# Altium footprint library OWMR.PcbLib: 59 footprints (part 4 of 4)
Each footprint in its own frame and in the unit in brackets; x right, y up, seen from the top. Pads: shape width x height; smd on the part's side, far side on the other; paste and mask are expansions set on the pad; w line width, h text height; cw(c..) or ccw(c..) is an arc to the next point about the centre after c.
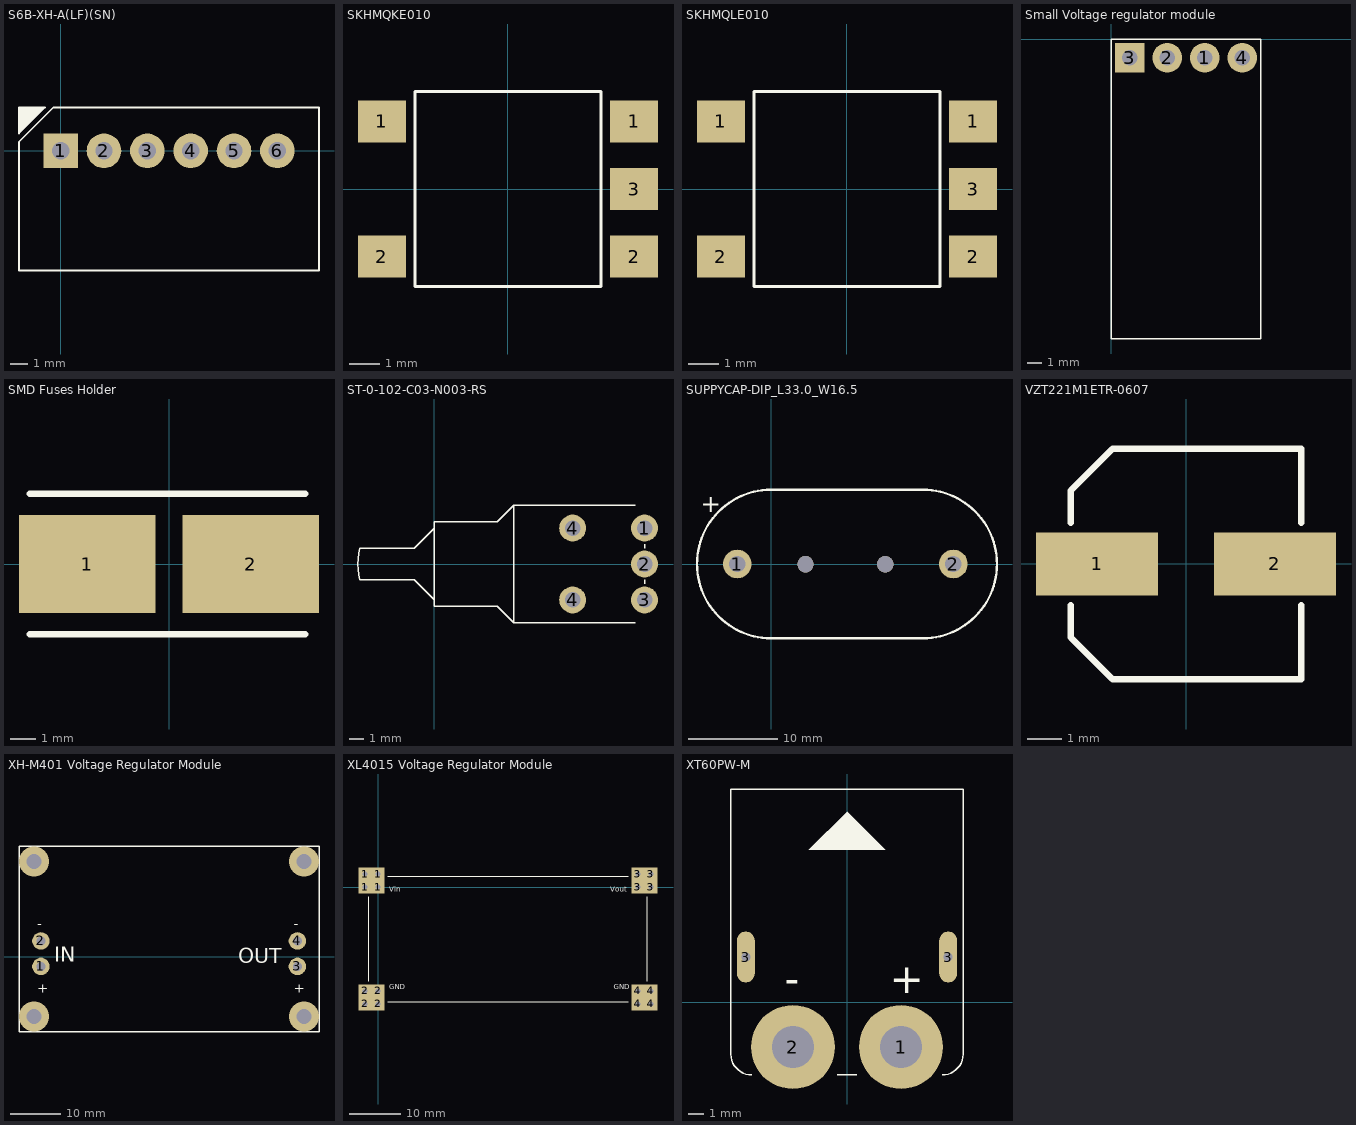
[diagram p3: the footprints below, top view; thin cyan lines are the x and y axes]

## S6B-XH-A(LF)(SN) [mil] "1x6P XH Header, Side Vesion"
height 240.16
pads (6):
  rect 80x80 hole 40: 1(0,0)
  round 80 hole 40: 2(100,0) 3(200,0) 4(300,0) 5(400,0) 6(500,0)
Top Overlay:
  region: -96,100 -36,100 -96,40
  lines w3.94: -96,-276 596,-276 596,100 -17.26,100 -96,21.26 -96,-276 ; -96,40 -96,100 -36,100 -96,40
3D body: height 358.27, standoff 0, extent -96,-276 596,100

## SKHMQKE010 [mm] "6.2mm 3.1mm Round Button 50mA Brick nogging 6.5mm SPST 12V SMD  Tactile Switches ROHS"
height 3.1
pads (5):
  rect 1.6x1.4 smd: 1(-4.2,2.25) 1(4.2,2.25) 2(-4.2,-2.25) 2(4.2,-2.25) 3(4.2,0)
Top Overlay:
  lines w0.1: -3.1,-3.25 3.1,-3.25 3.1,3.25 -3.1,3.25 -3.1,-3.25
3D body: height 3.1, standoff 0, extent -3.1,-3.25 3.1,3.25

## SKHMQLE010 [mm] "6.2mm 3.1mm Round Button 50mA Brick nogging 6.5mm SPST 12V SMD  Tactile Switches ROHS"
height 3.1
pads (5):
  rect 1.6x1.4 smd: 1(-4.2,2.25) 1(4.2,2.25) 2(-4.2,-2.25) 2(4.2,-2.25) 3(4.2,0)
Top Overlay:
  lines w0.1: -3.1,-3.25 -3.1,3.25 3.1,3.25 3.1,-3.25 -3.1,-3.25
3D body: height 3.1, standoff 0, extent -3.1,-3.25 3.1,3.25

## Small Voltage regulator module [mm] "3A DC-DC Non-isolated voltage regulator module"
pads (4):
  round 2 hole 1.02: 1(6.35,-1.27) 2(3.81,-1.27) 4(8.89,-1.27)
  rect 2x2 hole 1.02: 3(1.27,-1.27)
Top Overlay:
  lines w0.1: 0,-20.32 10.16,-20.32 10.16,0 0,0 0,-20.32
3D body: height 8.65, standoff 0, extent -0.347,-2.605 10.51,0.045

## SMD Fuses Holder [mil] "SMD 1808 Fuse Holder"
pads (2):
  rect 210x150 smd: 1(-125.5,0) 2(125.5,0)
Top Overlay:
  lines w10: -214.08,-108.27 209.15,-108.27 ; -214.08,108.27 209.15,108.27
3D body: height 150, standoff 0, extent -214.08,-108.27 209.15,108.27

## ST-0-102-C03-N003-RS [mm] "SW-SPST"
height 5.2
pads (5):
  round 1.9 hole 1.1: 1(14.85,2.54) 2(14.85,0) 3(14.85,-2.54) 4(9.77,-2.54) 4(9.77,2.54)
Top Overlay:
  lines w0.1: 0,-2.54 -1.417,-1.123 -5.282,-1.123 cw(c0,0) -5.282,1.123 -1.417,1.123 0,2.54 ; 14.2,-4.15 5.6,-4.15 ; 14.2,4.15 5.6,4.15 ; 14.85,-1.4 14.85,-1.1 ; 14.85,1.1 14.85,1.4 ; 5.6,-4.15 5.6,4.15 ; 5.6,-4.15 4.45,-3 0,-3 0,3 4.45,3 5.6,4.15

## SUPPYCAP-DIP_L33.0_W16.5 [mm] "478-11288-ND * 2"
pads (2):
  round 3.2 hole 1.83: 1(-3.802,0) 2(20.328,0)
via 12.708,-0.015 diameter 1.83 hole 1.83
via 3.818,-0.015 diameter 1.83 hole 1.83
Top Overlay:
  lines w0.254: 0,-8.3 cw(c0,0) 0,8.3 16.899,8.3 cw(c16.899,0) 16.899,-8.3 0,-8.3
  text "+" at -7.882,5.755 h2

## VZT221M1ETR-0607 [mm] "SMD 6.3x7.7mm 220uF 25V Capacitor"
height 8
pads (2):
  rect 3.6x1.85 smd: 1(-2.625,0) 2(2.625,0)
Top Overlay:
  lines w0.2: -3.4,-1.225 -3.4,-2.163 -2.163,-3.4 3.4,-3.4 3.4,-1.225 ; -3.4,1.225 -3.4,2.163 -2.163,3.4 3.4,3.4 3.4,1.225
3D body "CAPAE7266X80M.step": height 8, standoff 0, extent -3.6,-3.4 3.6,3.4

## XH-M401 Voltage Regulator Module [mm] "8A DC-DC Non-isolated voltage regulator module"
pads (4):
  round 3.5 hole 1.8: 1(-75.2,-1.9) 2(-75.2,3.18) 3(-23.9,-1.9) 4(-23.9,3.18)
via -76.58,19.076 diameter 6 hole 3
via -76.58,-11.924 diameter 6 hole 3
via -22.58,-11.924 diameter 6 hole 3
via -22.58,19.076 diameter 6 hole 3
Top Overlay:
  lines w0.254: -79.58,-14.924 -79.58,22.076 -19.58,22.076 -19.58,-14.924 -79.58,-14.924
  text "OUT" at -35.75,-1.25 h3
  text "IN" at -72.5,-1 h3
  text "-" at -75.95,5.68 h2
  text "+" at -75.95,-7.153 h2
  text "-" at -24.65,5.68 h2
  text "+" at -24.65,-7.153 h2

## XL4015 Voltage Regulator Module [mm] "5A DC-DC Non-isolated voltage regulator module"
pads (16):
  rect 2.74x2.74 hole 1.06 copper offset 0.1,0.1: 1(-2.54,0) 2(-2.54,-22.86) 3(50.8,0) 4(50.8,-22.86)
  rect 2.74x2.74 hole 1.06 copper offset 0.1,-0.1: 1(-2.54,2.54) 2(-2.54,-20.32) 3(50.8,2.54) 4(50.8,-20.32)
  rect 2.74x2.74 hole 1.06 copper offset -0.1,0.1: 1(0,0) 2(0,-22.86) 3(53.34,0) 4(53.34,-22.86)
  rect 2.74x2.74 hole 1.06 copper offset -0.1,-0.1: 1(0,2.54) 2(0,-20.32) 3(53.34,2.54) 4(53.34,-20.32)
Top Overlay:
  lines w0.1: -1.8,-18.415 -1.8,-1.905 ; 1.905,-22.46 48.895,-22.46 ; 1.905,2.14 48.895,2.14 ; 52.6,-18.415 52.6,-1.905
  text "Vout" at 45.385,-0.97 h1
  text "GND" at 46.02,-20.02 h1
  text "GND" at 2.205,-20.02 h1
  text "Vin" at 2.205,-0.97 h1
3D body: height 8.8, standoff 0, extent 49.53,-1.27 54.61,3.81
3D body: height 8.8, standoff 0, extent 49.53,-24.13 54.61,-19.05
3D body: height 8.8, standoff 0, extent -3.81,-24.13 1.27,-19.05
3D body: height 8.8, standoff 0, extent -3.81,-1.27 1.27,3.81

## XT60PW-M [mm] "500V 45A XT Connector"
height 8.4
pads (4):
  round 5.6 hole 2.8: 1(3.6,-3) 2(-3.6,-3)
  oval 1.2x3.4 hole 0.6 square: 3(-6.75,3) 3(6.75,3)
Top Overlay:
  region: 0,12.7 -2.54,10.16 2.54,10.16
  lines w0.1: -6.35,-4.85 cw(c-6.375,-3.475) -7.75,-3.5 -7.75,14.2 7.75,14.2 7.75,-3.5 cw(c6.375,-3.475) 6.35,-4.85 ; -0.635,-4.85 0.635,-4.85
  text "-" at -4.145,0.57 h2
  text "+" at 2.84,0.57 h2
3D body: height 8.4, standoff 0, extent -7.75,-4.85 7.75,14.2